# EAGLE library part RK097-SINGLE-W/SWITCH-ROTARY (library alps_japan_potentiometers)
Shematic Single Element w/ Switch
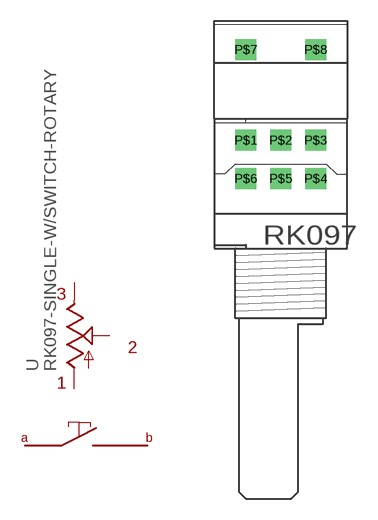
[diagram p1: symbol with the pads of RK097-DUAL-ELEMENT-W/SWITCH; footprint RK097-DUAL-ELEMENT-W/SWITCH]

Designator prefix -

## RK097-SINGLE-W/SWITCH-ROTARY  [RK097-DUAL-ELEMENT-W/SWITCH]
P$1  A  pas
P$2  A1  pas
P$3  E  pas
P$4  E1  pas
P$5  S  pas
P$6  S1  pas

## Footprint RK097-DUAL-ELEMENT-W/SWITCH (pad centres in mm)
RK097 Dual Element w/ Rotary Switch
drill 1 pad 1.422 square: P$1 -2.5,2.69; P$2 0,2.69; P$3 2.5,2.69; P$4 2.5,-0.06; P$5 0,-0.06; P$6 -2.5,-0.06; P$7 -2.5,9.19; P$8 2.5,9.19